# EAGLE library part ATXMEGA32A4 (library atmel-xmega)
8/16-bit XMEGA A4 Microcontroller Features High-performance, Low-power 8/16-bit Atmel® AVR® XMEGA™ Microcontroller Non-volatile Program and Data Memories – 16 KB - 128 KB of In-System Self-Programmable Flash – 4 KB - 8 KB Boot Code Section with Independent Lock Bits – 1 KB - 2 KB EEPROM – 2 KB - 8 KB Internal SRAM Peripheral Features – Four-channel DMA Controller with support for external requests – Eight-channel Event System – Five 16-bit Timer/Counters Three Timer/Counters with 4 Output Compare or Input Capture channels Two Timer/Counters with 2 Output Compare or Input Capture channels High-Resolution Extensions on all Timer/Counters Advanced Waveform Extension on one Timer/Counter – Five USARTs IrDA Extension on one USART – Two Two-Wire Interfaces with dual address match (I2C and SMBus compatible) – Two SPIs (Serial Peripheral Interfaces) peripherals – AES and DES Crypto Engine – 16-bit Real Time Counter with Separate Oscillator – One Twelve-channel, 12-bit, 2 Msps Analog to Digital Converter – One Two-channel, 12-bit, 1 Msps Digital to Analog Converter – Two Analog Comparators with Window compare function – External Interrupts on all General Purpose I/O pins – Programmable Watchdog Timer with Separate On-chip Ultra Low Power Oscillato Special Microcontroller Features – Power-on Reset and Programmable Brown-out Detection – Internal and External Clock Options with PLL – Programmable Multi-level Interrupt Controller – Sleep Modes: Idle, Power-down, Standby, Power-save, Extended Standby – Advanced Programming, Test and Debugging Interfaces PDI (Program and Debug Interface) for programming, test and debugging I/O and Packages – 34 Programmable I/O Lines – 44 - lead TQFP – 44 - pad VQFN/QFN – 49 - ball VFBGA Operating Voltage – 1.6 – 3.6V Speed performance – 0 – 12 MHz @ 1.6 – 3.6V – 0 – 32 MHz @ 2.7 – 3.6V
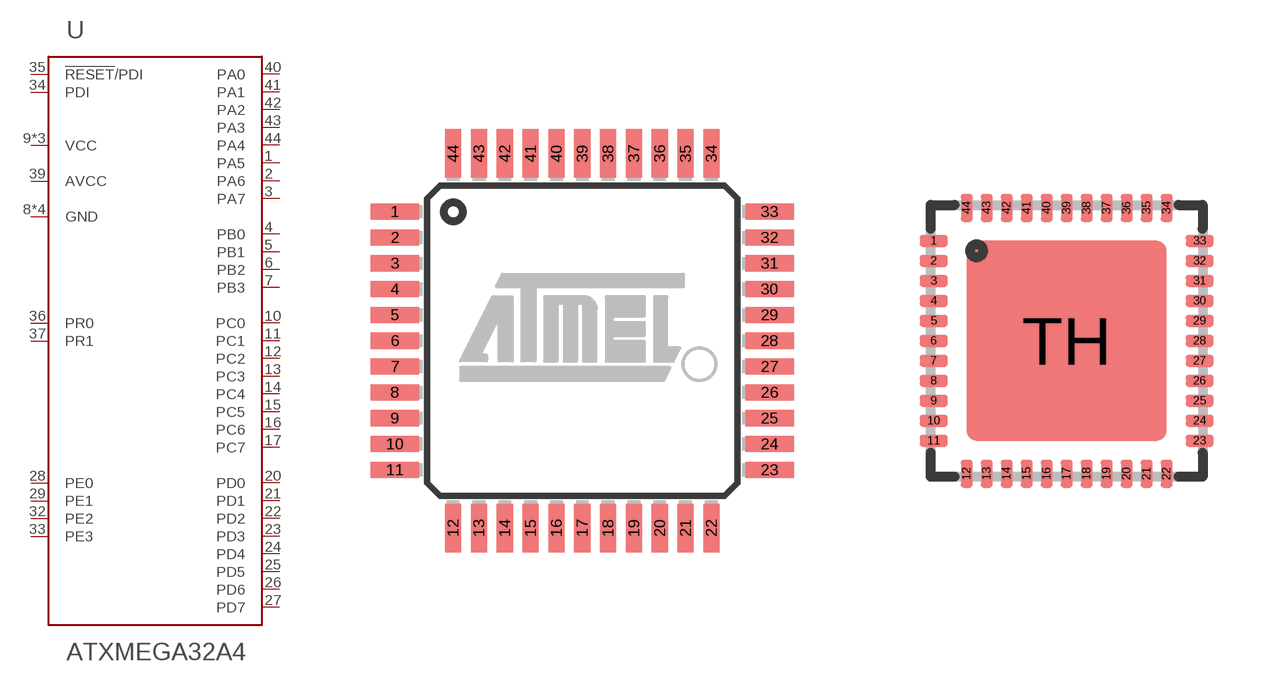
[diagram p4: symbol with the pads of TQFP-44A-44; footprints TQFP-44A-44, MLF-(VQFN)-44M1-44]

Designator prefix U

## ATXMEGA32A4-AU  [TQFP-44A-44]
1  PA5
2  PA6
3  PA7
4  PB0
5  PB1
6  PB2
7  PB3
8  GND  pwr
9  VCC  pwr
10  PC0
11  PC1
12  PC2
13  PC3
14  PC4
15  PC5
16  PC6
17  PC7
18  GND  pwr
19  VCC  pwr
20  PD0
21  PD1
22  PD2
23  PD3
24  PD4
25  PD5
26  PD6
27  PD7
28  PE0
29  PE1
30  GND  pwr
31  VCC  pwr
32  PE2
33  PE3
34  PDI
35  !RESET!/PDI
36  PR0
37  PR1
38  GND  pwr
39  AVCC  pwr
40  PA0
41  PA1
42  PA2
43  PA3
44  PA4

## ATXMEGA32A4-MH  [MLF-(VQFN)-44M1-44]
1  PA5
2  PA6
3  PA7
4  PB0
5  PB1
6  PB2
7  PB3
8  GND  pwr
9  VCC  pwr
10  PC0
11  PC1
12  PC2
13  PC3
14  PC4
15  PC5
16  PC6
17  PC7
18  GND  pwr
19  VCC  pwr
20  PD0
21  PD1
22  PD2
23  PD3
24  PD4
25  PD5
26  PD6
27  PD7
28  PE0
29  PE1
30  GND  pwr
31  VCC  pwr
32  PE2
33  PE3
34  PDI
35  !RESET!/PDI
36  PR0
37  PR1
38  GND  pwr
39  AVCC  pwr
40  PA0
41  PA1
42  PA2
43  PA3
44  PA4
TH  GND  pwr

## ATXMEGA32A4-CU  [VFBGA-49C2-49]
A1  PA3
A2  AVCC  pwr
A3  GND  pwr
A4  PR1
A5  PR0
A6  PDI
A7  PE3
B1  PA4
B2  PA1
B3  PA0
B4  GND  pwr
B5  !RESET!/PDI
B6  PE2
B7  VCC  pwr
C1  PA5
C2  PA2
C3  PA6
C4  PA7
C5  GND  pwr
C6  PE1
C7  GND  pwr
D1  PB1
D2  PB2
D3  PB3
D4  PB0
D5  GND  pwr
D6  PD7
D7  PE0
E1  GND  pwr
E2  GND  pwr
E3  PC3
E4  GND  pwr
E5  PD4
E6  PD5
E7  PD6
F1  VCC  pwr
F2  PC0
F3  PC4
F4  PC6
F5  PD0
F6  PD1
F7  PD3
G1  PC1
G2  PC2
G3  PC5
G4  PC7
G5  GND  pwr
G6  VCC  pwr
G7  PD2

## Footprint TQFP-44A-44 (pad centres in mm)
44A, 44-lead, 10 x 10 mm Body Size, 1.0 mm Body Thickness, 0.8 mm Lead Pitch, Thin Profile Plastic Quad Flat Package (TQFP)
smd 1.5 x 0.5: 1 -5.8,4; 2 -5.8,3.2; 3 -5.8,2.4; 4 -5.8,1.6; 5 -5.8,0.8; 6 -5.8,0; 7 -5.8,-0.8; 8 -5.8,-1.6; 9 -5.8,-2.4; 10 -5.8,-3.2; 11 -5.8,-4; 23 5.8,-4; 24 5.8,-3.2; 25 5.8,-2.4; 26 5.8,-1.6; 27 5.8,-0.8; 28 5.8,0; 29 5.8,0.8; 30 5.8,1.6; 31 5.8,2.4; 32 5.8,3.2; 33 5.8,4
smd 0.5 x 1.5: 12 -4,-5.8; 13 -3.2,-5.8; 14 -2.4,-5.8; 15 -1.6,-5.8; 16 -0.8,-5.8; 17 0,-5.8; 18 0.8,-5.8; 19 1.6,-5.8; 20 2.4,-5.8; 21 3.2,-5.8; 22 4,-5.8; 34 4,5.8; 35 3.2,5.8; 36 2.4,5.8; 37 1.6,5.8; 38 0.8,5.8; 39 0,5.8; 40 -0.8,5.8; 41 -1.6,5.8; 42 -2.4,5.8; 43 -3.2,5.8; 44 -4,5.8

## Footprint MLF-(VQFN)-44M1-44 (pad centres in mm)
44M1, 44-pad, 7 x 7 x 1.0 mm Body, Lead Pitch 0.50 mm, 5.20 mm Exposed Pad, Thermally Enhanced Plastic Very Thin Quad Flat No Lead Package (VQFN)
smd 0.7 x 0.3: 1 -3.325,2.5; 2 -3.325,2; 3 -3.325,1.5; 4 -3.325,1; 5 -3.325,0.5; 6 -3.325,0; 7 -3.325,-0.5; 8 -3.325,-1; 9 -3.325,-1.5; 10 -3.325,-2; 11 -3.325,-2.5; 23 3.325,-2.5; 24 3.325,-2; 25 3.325,-1.5; 26 3.325,-1; 27 3.325,-0.5; 28 3.325,0; 29 3.325,0.5; 30 3.325,1; 31 3.325,1.5; 32 3.325,2; 33 3.325,2.5
smd 0.3 x 0.7: 12 -2.5,-3.325; 13 -2,-3.325; 14 -1.5,-3.325; 15 -1,-3.325; 16 -0.5,-3.325; 17 0,-3.325; 18 0.5,-3.325; 19 1,-3.325; 20 1.5,-3.325; 21 2,-3.325; 22 2.5,-3.325; 34 2.5,3.325; 35 2,3.325; 36 1.5,3.325; 37 1,3.325; 38 0.5,3.325; 39 0,3.325; 40 -0.5,3.325; 41 -1,3.325; 42 -1.5,3.325; 43 -2,3.325; 44 -2.5,3.325
smd 5 x 5: TH 0,0

## Footprint VFBGA-49C2-49 (pad centres in mm)
49C2, 49-ball (7 x 7 Array), 0.65 mm Pitch, 5.0 x 5.0 x 1.0 mm, Very Thin, Fine-Pitch Ball Grid Array Package (VFBGA)
smd 0.35 x 0.35: A1 -1.95,1.95; A2 -1.3,1.95; A3 -0.65,1.95; A4 0,1.95; A5 0.65,1.95; A6 1.3,1.95; A7 1.95,1.95; B1 -1.95,1.3; B2 -1.3,1.3; B3 -0.65,1.3; B4 0,1.3; B5 0.65,1.3; B6 1.3,1.3; B7 1.95,1.3; C1 -1.95,0.65; C2 -1.3,0.65; C3 -0.65,0.65; C4 0,0.65; C5 0.65,0.65; C6 1.3,0.65; C7 1.95,0.65; D1 -1.95,0; D2 -1.3,0; D3 -0.65,0; D4 0,0; D5 0.65,0; D6 1.3,0; D7 1.95,0; E1 -1.95,-0.65; E2 -1.3,-0.65; E3 -0.65,-0.65; E4 0,-0.65; E5 0.65,-0.65; E6 1.3,-0.65; E7 1.95,-0.65; F1 -1.95,-1.3; F2 -1.3,-1.3; F3 -0.65,-1.3; F4 0,-1.3; F5 0.65,-1.3; F6 1.3,-1.3; F7 1.95,-1.3; G1 -1.95,-1.95; G2 -1.3,-1.95; G3 -0.65,-1.95; G4 0,-1.95; G5 0.65,-1.95; G6 1.3,-1.95; G7 1.95,-1.95